# Altium schematic symbol library SamlibSCH.SchLib: 216 symbols (part 5 of 5)
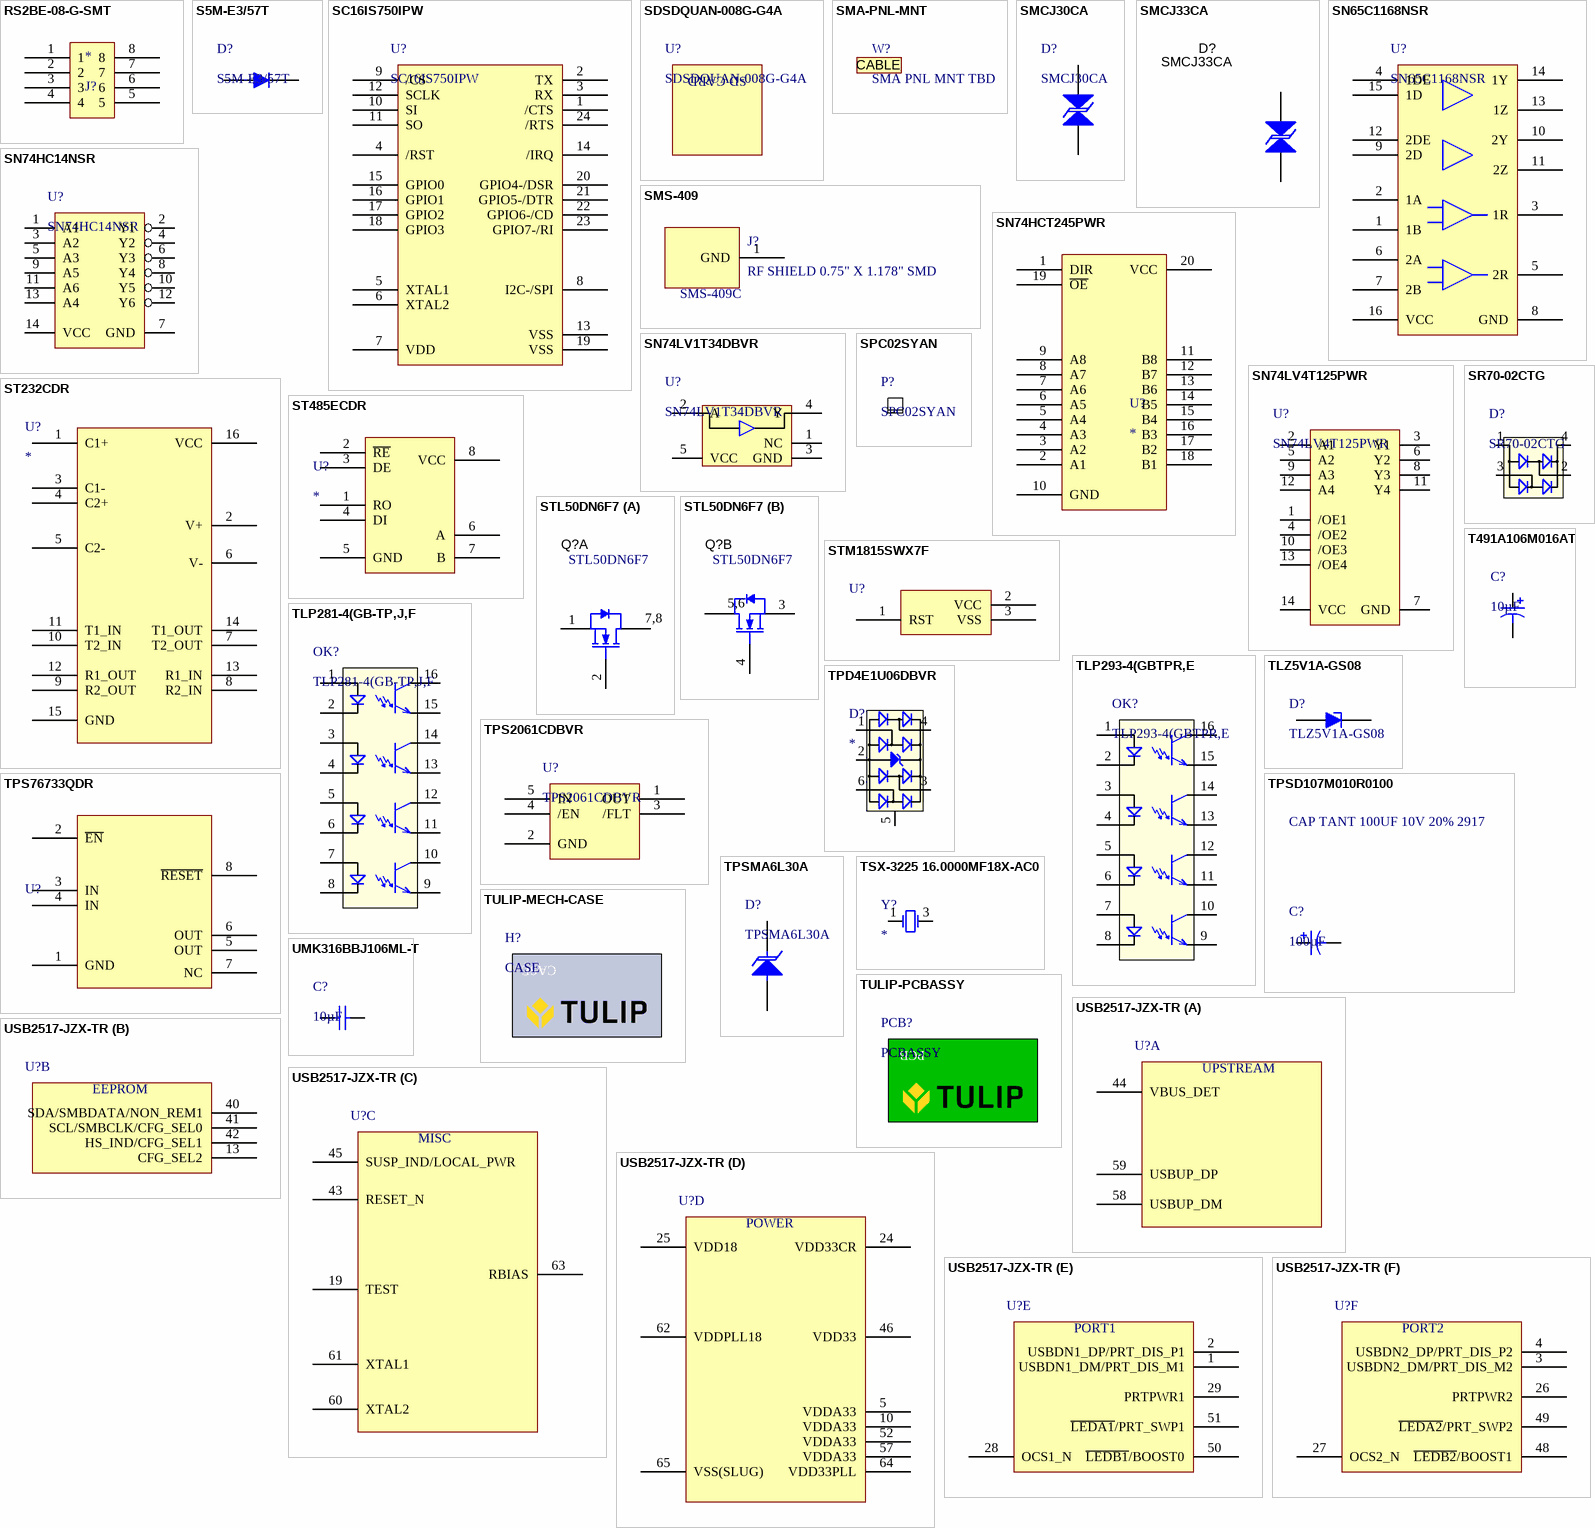
[diagram p11: symbols RS2BE-08-G-SMT to USB2517-JZX-TR]

## SN74HCT245PWR
designator U?
IC TXRX NON-INVERT 5.5V 20TSSOP; Manufacturer 1: Texas Instruments; Manufacturer Part Number 1: SN74HCT245PWR; Min Supply Voltage: 4.5V; Number of Elements: 1; Direction: Bidirectional; Operating Supply Voltage: 5V; Propagation Delay: 74ns; Number of Channels: 8; High Level Output Current: -6mA; Low Level Output Current: 6mA; Polarity: Non-Inverting; Logic Function: Transceiver,Inverting; Quiescent Current: 8uA; Supplier 1: Digi-Key; Stock 1: 38642; Pricing 1: 1=0.49000, 10=0.42100, 100=0.31440, 500=0.24700, 1000=0.19086 (USD); RoHS: Yes; Mount: Surface Mount; Case/Package: TSSOP; Number of Pins: 20; Weight: 0.002716oz; Contact Plating: Gold; Min Operating Temperature: -40°C; Max Operating Temperature: 85°C; Max Supply Voltage: 5.5V; Packaging: Tape and Reel; Package Quantity: 2000; Number of Bits per Element: 8; Number of Circuits: 8; Turn-On Delay Time: 74ns; Number of Outputs: 8; Number of Bits: 8; Radiation Hardening: No; Lead Free: Lead Free; REACH SVHC: No SVHC; ComponentLink1URL: https://datasheet.ciiva.com/27051/1008995-27051202.pdf?src-supplier=Jameco; ComponentLink1Description: https://datasheet.ciiva.com/27051/1008995-27051202.pdf?src-supplier=Jameco; ComponentLink2URL: https://datasheet.ciiva.com/15086/getdatasheetpartid-247086-15086443.pdf?src-supplier=Verical; ComponentLink2Description: https://datasheet.ciiva.com/15086/getdatasheetpartid-247086-15086443.pdf?src-supplier=Verical; ComponentLink3URL: https://datasheet.ciiva.com/26862/sn74hct245pwr-26862385.pdf?src-supplier=IIIC; ComponentLink3Description: https://datasheet.ciiva.com/26862/sn74hct245pwr-26862385.pdf?src-supplier=IIIC; ComponentLink4URL: https://datasheet.ciiva.com/41456/001016827-da-01-en-ic-bus-8bit-s-sn74hct245pwr-tssop-20-tid-41456682.pdf?src-supplier=Conrad; ComponentLink4Description: https://datasheet.ciiva.com/41456/001016827-da-01-en-ic-bus-8bit-s-sn74hct245pwr-tssop-20-tid-41456682.pdf?src-supplier=Conrad; ComponentLink5URL: https://datasheet.ciiva.com/25972/sn74hct245-25972421.pdf?src-supplier=Avnet+Europe; ComponentLink5Description: https://datasheet.ciiva.com/25972/sn74hct245-25972421.pdf?src-supplier=Avnet+Europe; ComponentLink6URL: https://datasheet.ciiva.com/28594/1835034-28594298.pdf?src-supplier=Element14; ComponentLink6Description: https://datasheet.ciiva.com/28594/1835034-28594298.pdf?src-supplier=Element14; ComponentLink7URL: https://datasheet.ciiva.com/1833/sn74hct245-1833931.pdf?src-supplier=Digi-Key; ComponentLink7Description: https://datasheet.ciiva.com/1833/sn74hct245-1833931.pdf?src-supplier=Digi-Key; ComponentLink8URL: https://datasheet.ciiva.com/1833/sn74hct245-1833932.pdf?src-supplier=Digi-Key; ComponentLink8Description: https://datasheet.ciiva.com/1833/sn74hct245-1833932.pdf?src-supplier=Digi-Key; ComponentLink9URL: https://datasheet.ciiva.com/1833/sn74hct245-1833933.pdf?src-supplier=Digi-Key; ComponentLink9Description: https://datasheet.ciiva.com/1833/sn74hct245-1833933.pdf?src-supplier=Digi-Key; ComponentLink10URL: https://datasheet.ciiva.com/46442/1835034-46442670.pdf?src-supplier=Element14; ComponentLink10Description: https://datasheet.ciiva.com/46442/1835034-46442670.pdf?src-supplier=Element14; Supplier Part Number 1: 296-8404-1-ND
footprint TSOP65P640X120-20N (TSOP, 20-Leads, Body 6.50x4.40mm, Pitch 0.65mm, IPC Medium Density)
pins: 1 DIR, 2 A1, 3 A2, 4 A3, 5 A4, 6 A5, 7 A6, 8 A7, 9 A8, 10 GND, 11 B8, 12 B7, 13 B6, 14 B5, 15 B4, 16 B3, 17 B2, 18 B1, 19 ~{OE}, 20 VCC

## SN74LV1T34DBVR
designator U?
IC BUFFER GATE SGL CMOS SOT23-5; Manufacturer: Texas Instruments; Logic Type: Buffer/Line Driver, Non-Inverting; Number of Elements: 1; Current - Output High, Low: 8mA, 8mA; Voltage - Supply: 1.6 V ~ 5.5 V; Packaging: Cut Tape (CT); Number of Bits per Element: 1; Operating Temperature: -40°C ~ 125°C; Mounting Type: Surface Mount; Package / Case: SC-74A, SOT-753; Supplier Device Package: SOT-23-5; ComponentLink1URL: http://www.ti.com/lit/ds/symlink/sn74lv1t34.pdf; ComponentLink1Description: http://www.ti.com/lit/ds/symlink/sn74lv1t34.pdf; Supplier 1: Digi-Key; Supplier Part Number 1: 296-37176-1-ND; Manufacturer Part Number: SN74LV1T34DBVR; RoHS: RoHS Compliant; Category: Integrated Circuits (ICs); Stock: 3038; Pricing: 1=0.46, 10=0.373, 100=0.2541, 500=0.1902, 1000=0.14245 (USD)
footprint SOT95P285X145-5N (SOT23, 5-Leads, Body 3.1x3.0mm (max), Pitch 0.95mm, IPC Medium Density)
pins: 1 NC, 2 A, 3 GND, 4 Y, 5 VCC

## SN74LV4T125PWR
designator U?
IC BUFF/DVR NON-INVERT 14TSSOP; Manufacturer: Texas Instruments; Logic Type: Buffer/Line Driver, Non-Inverting; Number of Elements: 4; Number of Bits per Element: 1; Current - Output High, Low: 16mA, 16mA; Voltage - Supply: 1.6 V ~ 5.5 V; Packaging: Cut Tape (CT); Operating Temperature: -40°C ~ 125°C; Mounting Type: Surface Mount; Package / Case: 14-TSSOP (0.173", 4.40mm Width); Supplier Device Package: 14-TSSOP; ComponentLink1URL: http://www.ti.com/lit/ds/symlink/sn74lv4t125.pdf; ComponentLink1Description: http://www.ti.com/lit/ds/symlink/sn74lv4t125.pdf; Supplier 1: Digi-Key; Supplier Part Number 1: 296-40545-1-ND; Manufacturer Part Number: SN74LV4T125PWR; RoHS: RoHS Compliant; Category: Integrated Circuits (ICs); Stock: 1712; Pricing: 1=0.95, 10=0.851, 100=0.6636, 500=0.5488, 1000=0.434 (USD)
footprint TSOP65P640X120-14L (TSOP, 14-Leads, Body 5.00x4.40mm, Pitch 0.65mm, IPC High Density)
pins: 1 /OE1, 2 A1, 3 Y1, 4 /OE2, 5 A2, 6 Y2, 7 GND (power), 8 Y3, 9 A3, 10 /OE3, 11 Y4, 12 A4, 13 /OE4, 14 VCC (power)

## SPC02SYAN
designator P?  (mechanical)
CONN JUMPER SHORTING GOLD FLASH; Manufacturer: Sullins Connector Solutions; Gender: Female Sockets; Number of Positions or Pins (Grid): 2 (1 x 2); Pitch: 0.100" (2.54mm); Packaging: Bulk; Part Status: Active; Type: Closed Top; Height: 0.256" (6.50mm); Contact Finish: Gold; Contact Finish Thickness: Flash; Color: Black; ComponentLink1URL: http://www.sullinscorp.com/drawings/134_C02SYAN_11134.pdf; ComponentLink1Description: http://www.sullinscorp.com/drawings/134_C02SYAN_11134.pdf; Supplier 1: Digi-Key; Supplier Part Number 1: S9001-ND; Manufacturer Part Number: SPC02SYAN; RoHS: RoHS Compliant; Category: Connectors, Interconnects; Stock 1: 243233; Pricing: 1=0.13, 10=0.077, 25=0.0548, 50=0.0448, 100=0.0385, 250=0.03256, 500=0.0301, 1000=0.0266, 2500=0.021 (USD)

## SR70-02CTG
designator D?
TVS DIODE 70VWM 12VC SOT143-4; Manufacturer: Littelfuse Inc.; Type: Steering (Rail to Rail); Bidirectional Channels: 2; Voltage - Reverse Standoff (Typ): 70V (Max); Voltage - Clamping (Max) @ Ipp: 12V (Typ); Current - Peak Pulse (10/1000µs): 30A (8/20µs); Power Line Protection: No; Capacitance @ Frequency: 2pF @ 1MHz; Packaging: Cut Tape (CT); Unidirectional Channels: -; Voltage - Breakdown (Min): -; Power - Peak Pulse: -; Applications: Ethernet; Operating Temperature: -40°C ~ 125°C (TJ); Mounting Type: Surface Mount; Package / Case: TO-253-4, TO-253AA; Supplier Device Package: SOT-143-4; ComponentLink1URL: http://www.littelfuse.com/~/media/electronics/datasheets/tvs_diode_arrays/littelfuse_tvs_diode_array_sr70_datasheet.pdf.pdf; ComponentLink1Description: http://www.littelfuse.com/~/media/electronics/datasheets/tvs_diode_arrays/littelfuse_tvs_diode_array_sr70_datasheet.pdf.pdf; Supplier 1: Digi-Key; Supplier Part Number 1: F5915CT-ND; Manufacturer Part Number: SR70-02CTG; RoHS: RoHS Compliant; Category: Circuit Protection; Stock: 0; Pricing: 1=1.01, 10=0.884, 25=0.7816, 100=0.6811, 250=0.59292, 500=0.5047, 1000=0.40425 (USD); Supplier 2: Mouser; Supplier Part Number 2: 576-SR70-02CTG
footprint SOT-143-4 (Littelfuse)
pins: 1 GND, 2 I/O2, 3 I/O1, 4 VDD

## ST232CDR
designator U?
IC DRVR/RCVR RS232 5V 16-SOIC; Manufacturer: STMicroelectronics; Manufacturer Part Number: ST232CDR; Data Rate: 220Kbps; Max Supply Voltage: 5.5V; Min Supply Voltage: 4.5V; Nominal Supply Current: 10mA; Number of Receivers: 2; Interface: RS-232; Logic Function: Receiver; Number of Transceivers: 1; Propagation Delay: 0.3us; Supplier 1: Digi-Key; Supplier Part Number 1: 497-6529-1-ND; Stock 1: 10770; Pricing 1: 1 = 0.70000, 10 = 0.61300, 100 = 0.47010, 500 = 0.37162, 1000 = 0.29730 (USD); RoHS: Yes; Mount: Surface Mount; Case/Package: SOP; Number of Pins: 16; Min Operating Temperature: 0°C; Max Operating Temperature: 70°C; Package Quantity: 1; Packaging: Tape and Reel; Number of Transmitters: 2; Operating Supply Voltage: 5V; Number of Drivers: 2; Termination: SMD/SMT; Length: 10mm; Height: 1.65mm; Width: 4mm; Radiation Hardening: No; REACH SVHC: No SVHC; Lead Free: Lead Free; ComponentLink1URL: https://datasheet.ciiva.com/3029/cd00001703-3029892.pdf?src-supplier=Avnet; ComponentLink1Description: https://datasheet.ciiva.com/3029/cd00001703-3029892.pdf?src-supplier=Avnet; ComponentLink2URL: https://datasheet.ciiva.com/1700/cd00001703-1700950.pdf?src-supplier=Digi-Key; ComponentLink2Description: https://datasheet.ciiva.com/1700/cd00001703-1700950.pdf?src-supplier=Digi-Key; ComponentLink3URL: https://datasheet.ciiva.com/1700/cd00001703-1700951.pdf?src-supplier=Digi-Key; ComponentLink3Description: https://datasheet.ciiva.com/1700/cd00001703-1700951.pdf?src-supplier=Digi-Key; ComponentLink4URL: https://datasheet.ciiva.com/1700/cd00001703-1700952.pdf?src-supplier=Digi-Key; ComponentLink4Description: https://datasheet.ciiva.com/1700/cd00001703-1700952.pdf?src-supplier=Digi-Key; ComponentLink5URL: https://datasheet.ciiva.com/7630/1761321-7630092.pdf?src-supplier=Element14; ComponentLink5Description: https://datasheet.ciiva.com/7630/1761321-7630092.pdf?src-supplier=Element14; ComponentLink6URL: https://datasheet.ciiva.com/7630/1761321-7630093.pdf?src-supplier=Element14; ComponentLink6Description: https://datasheet.ciiva.com/7630/1761321-7630093.pdf?src-supplier=Element14
footprint SOIC127P780X265-16N (SOIC, 16-Leads, Body 10.5x5.6mm (max), Pitch 1.27mm, IPC Medium Density)
pins: 1 C1+, 2 V+, 3 C1-, 4 C2+, 5 C2-, 6 V-, 7 T2_OUT, 8 R2_IN, 9 R2_OUT, 10 T2_IN, 11 T1_IN, 12 R1_OUT, 13 R1_IN, 14 T1_OUT, 15 GND, 16 VCC

## ST485ECDR
designator U?
IC TXRX 5V RS485/422 ESD 8-SOIC; Manufacturer: STMicroelectronics; Manufacturer Part Number: ST485ECDR; Number of Receivers: 1; Data Rate: 5Mbps; Min Supply Voltage: 4.75V; Max Supply Voltage: 5.25V; Nominal Supply Current: 900uA; Interface: RS-422; Logic Function: Transceiver; ESD Protection: Yes; Supplier 1: Digi-Key; Supplier Part Number 1: 497-3735-1-ND; Stock 1: 8127; Pricing 1: 1 = 1.07000, 10 = 0.95300, 100 = 0.74270, 500 = 0.61352, 1000 = 0.48437 (USD); RoHS: Yes; Mount: Surface Mount; Case/Package: SOIC; Number of Pins: 8; Contact Plating: Gold; Min Operating Temperature: 0°C; Max Operating Temperature: 70°C; Number of Transmitters: 1; Operating Supply Voltage: 5V; Packaging: Tape and Reel; Package Quantity: 2500; Number of Transceivers: 1; Number of Drivers: 1; Length: 5mm; Height: 1.25mm; Width: 4mm; Radiation Hardening: No; REACH SVHC: No SVHC; Lead Free: Lead Free; ComponentLink1URL: https://datasheet.ciiva.com/26913/getdatasheetpartid-77135-26913202.pdf?src-supplier=Verical; ComponentLink1Description: https://datasheet.ciiva.com/26913/getdatasheetpartid-77135-26913202.pdf?src-supplier=Verical; ComponentLink2URL: https://datasheet.ciiva.com/41459/001185218-da-01-en-ic-txrx-5v-rs485-42-st485ecdr-soic-8-stm-41459769.pdf?src-supplier=Conrad; ComponentLink2Description: https://datasheet.ciiva.com/41459/001185218-da-01-en-ic-txrx-5v-rs485-42-st485ecdr-soic-8-stm-41459769.pdf?src-supplier=Conrad; ComponentLink3URL: https://datasheet.ciiva.com/1701/cd00002703-1701127.pdf?src-supplier=Digi-Key; ComponentLink3Description: https://datasheet.ciiva.com/1701/cd00002703-1701127.pdf?src-supplier=Digi-Key; ComponentLink4URL: https://datasheet.ciiva.com/1701/cd00002703-1701128.pdf?src-supplier=Digi-Key; ComponentLink4Description: https://datasheet.ciiva.com/1701/cd00002703-1701128.pdf?src-supplier=Digi-Key; ComponentLink5URL: https://datasheet.ciiva.com/1701/cd00002703-1701129.pdf?src-supplier=Digi-Key; ComponentLink5Description: https://datasheet.ciiva.com/1701/cd00002703-1701129.pdf?src-supplier=Digi-Key; ComponentLink6URL: https://datasheet.ciiva.com/7630/1673567-7630122.pdf?src-supplier=Element14; ComponentLink6Description: https://datasheet.ciiva.com/7630/1673567-7630122.pdf?src-supplier=Element14
footprint SOIC127P600X175-8N (SOIC, 8-Leads, Body 4.9x3.9mm (max), Pitch 1.27mm, IPC Medium Density)
pins: 1 RO, 2 ~{RE}, 3 DE, 4 DI, 5 GND, 6 A, 7 B, 8 VCC

## STL50DN6F7
designator Q?
MOSFET N-CH 60V 57A POWERFLAT; Manufacturer: STMicroelectronics; Rds On Max: 11mR; Input Capacitance: 1.035nF; Max Power Dissipation: 62.5W; Supplier 1: Mouser; Supplier Part Number 1: 511-STL50DN6F7; Stock 1: 1447; Pricing 1: 1 = 0.84000, 10 = 0.69800, 50 = 0.69800, 100 = 0.45000, 1000 = 0.36000, 10000 = 0.29300 (USD); RoHS: Yes; Mount: Surface Mount; Number of Pins: 8; Min Operating Temperature: -55°C; Max Operating Temperature: 175°C; Packaging: Tape and Reel; Drain to Source Voltage (Vdss): 60V; Continuous Drain Current (ID): 57A; Lead Free: Lead Free; ComponentLink1URL: http://www.mouser.com/ds/2/389/stl50dn6f7-956286.pdf?src-supplier=Mouser; ComponentLink1Description: http://www.mouser.com/ds/2/389/stl50dn6f7-956286.pdf?src-supplier=Mouser; ComponentLink2URL: http://www.st.com/content/ccc/resource/technical/document/user_manual/04/4d/16/0d/d9/49/46/29/DM00064632.pdf/files/DM00064632.pdf/jcr:content/translations/en.DM00064632.pdf?src-supplier=Digi-Key; ComponentLink2Description: http://www.st.com/content/ccc/resource/technical/document/user_manual/04/4d/16/0d/d9/49/46/29/DM00064632.pdf/files/DM00064632.pdf/jcr:content/translations/en.DM00064632.pdf?src-supplier=Digi-Key; ComponentLink3URL: http://www.st.com/content/ccc/resource/technical/document/datasheet/5b/2d/23/78/4e/a3/4b/c9/DM00216100.pdf/files/DM00216100.pdf/jcr:content/translations/en.DM00216100.pdf?src-supplier=Digi-Key; ComponentLink3Description: http://www.st.com/content/ccc/resource/technical/document/datasheet/5b/2d/23/78/4e/a3/4b/c9/DM00216100.pdf/files/DM00216100.pdf/jcr:content/translations/en.DM00216100.pdf?src-supplier=Digi-Key; Manufacturer Part Number: STL50DN6F7
footprint 8-PowerVDFN (PowerFlat™ (5x6))
part A pins: 1 S, 2 G, 7 D, 8 D
part B pins: 3 S, 4 G, 5 D, 6 D
part A text: 7,8
part B text: 5,6

## STM1815SWX7F
designator U?  (value not drawn)
IC SUPERVISOR 1 CHANNEL SOT23-3; Manufacturer: STMicroelectronics; Manufacturer Part Number: STM1815SWX7F; Max Supply Voltage: 5.5V; Min Supply Voltage: 1.2V; Max Power Dissipation: 320mW; Max Supply Current: 16uA; Watchdog Timer: No; Min Reset Threshold Voltage: 2.8V; Max Reset Threshold Voltage: 2.97V; Number of Voltages Monitored: 1; Reset: Active Low; Reset Timeout: 100ms; Threshold Voltage: 2.88V; Supplier 1: Digi-Key; Stock 1: 4419; Pricing 1: 1=0.66000, 10=0.58500, 100=0.41630, 500=0.33660, 1000=0.25688 (USD); RoHS: Yes; Mount: Surface Mount; Case/Package: SOT-23-3; Number of Pins: 3; Min Operating Temperature: -40°C; Max Operating Temperature: 105°C; Packaging: Tape and Reel; Nominal Supply Current: 16uA; Package Quantity: 1; Type: Simple Reset/Power-On Reset; Overvoltage Threshold: 2.97V; Undervoltage Threshold: 2.8V; Operating Supply Current: 16uA; Number of Elements: 1; Power Dissipation: 320mW; Height: 1.02mm; Width: 1.4mm; Radiation Hardening: No; Lead Free: Lead Free; ComponentLink1URL: https://datasheet.ciiva.com/16291/cd00059921-16291210.pdf?src-supplier=Future+Electronics; ComponentLink1Description: https://datasheet.ciiva.com/16291/cd00059921-16291210.pdf?src-supplier=Future+Electronics; ComponentLink2URL: https://datasheet.ciiva.com/1974/cd00059921-1974451.pdf?src-supplier=Digi-Key; ComponentLink2Description: https://datasheet.ciiva.com/1974/cd00059921-1974451.pdf?src-supplier=Digi-Key; ComponentLink3URL: https://datasheet.ciiva.com/1974/cd00059921-1974452.pdf?src-supplier=Digi-Key; ComponentLink3Description: https://datasheet.ciiva.com/1974/cd00059921-1974452.pdf?src-supplier=Digi-Key; ComponentLink4URL: https://datasheet.ciiva.com/1974/cd00059921-1974453.pdf?src-supplier=Digi-Key; ComponentLink4Description: https://datasheet.ciiva.com/1974/cd00059921-1974453.pdf?src-supplier=Digi-Key; ComponentLink5URL: https://datasheet.ciiva.com/1974/cd00059921-1974454.pdf?src-supplier=Digi-Key; ComponentLink5Description: https://datasheet.ciiva.com/1974/cd00059921-1974454.pdf?src-supplier=Digi-Key; ComponentLink6URL: https://datasheet.ciiva.com/8139/cd00059921-8139127.pdf?src-supplier=Avnet; ComponentLink6Description: https://datasheet.ciiva.com/8139/cd00059921-8139127.pdf?src-supplier=Avnet; ComponentLink7URL: https://datasheet.ciiva.com/17226/cd00059921-17226695.pdf?src-supplier=Avnet+Europe; ComponentLink7Description: https://datasheet.ciiva.com/17226/cd00059921-17226695.pdf?src-supplier=Avnet+Europe; Length: 3.04mm; Supplier Part Number 1: 497-4968-1-ND
footprint SOT23-3N (SOT23, 3-Leads, Body 2.9x1.3mm, Pitch 0.95mm, Lead Span 2.5mm, IPC Medium Density)
pins: 1 RST, 2 VCC, 3 VSS

## T491A106M016AT
designator C?, comment 10µF
CAP TANT 10UF 16V 20% 1206; Manufacturer Size Code: A; Manufacturer: Kemet; Manufacturer Part Number: T491A106M016AT; ESR (Equivalent Series Resistance): 7 Ohm; Type: Molded; Lifetime @ Temp.: 2000 Hrs @ 85°C; Packaging: Cut Tape (CT); Capacitance: 10µF; Tolerance: ±20%; Voltage - Rated: 16V; Operating Temperature: -55°C ~ 125°C; Mounting Type: Surface Mount; Package / Case: 1206 (3216 Metric); Size / Dimension: 0.126" L x 0.063" W (3.20mm x 1.60mm); Height - Seated (Max): 0.071" (1.80mm); Lead Spacing: -; Features: General Purpose; ComponentLink1URL: http://www.kemet.com/Lists/ProductCatalog/Attachments/254/KEM_T2005_T491.pdf; ComponentLink1Description: http://www.kemet.com/Lists/ProductCatalog/Attachments/254/KEM_T2005_T491.pdf; Supplier 1: Digi-Key; Supplier Part Number 1: 399-3687-1-ND; RoHS: RoHS Compliant; Category: Capacitors; Stock: 136950; Pricing: 1=0.41, 10=0.362, 50=0.2198, 100=0.181, 250=0.14476, 500=0.13184, 1000=0.11891 (USD)
footprint 1206 TANT CASE A (TANTALUM CASE A)
pins: 1, 2

## TLP281-4(GB-TP,J,F
designator OK?
OPTOISO 2.5KV 4CH TRANS 16-SOP; Manufacturer: Toshiba Semiconductor and Storage; Number of Channels: 4; Voltage - Isolation: 2500Vrms; Current Transfer Ratio (Min): 100% @ 5mA; Current Transfer Ratio (Max): 600% @ 5mA; Turn On / Turn Off Time (Typ): 3µs, 3µs; Rise / Fall Time (Typ): 2µs, 3µs; Input Type: DC; Output Type: Transistor; Voltage - Output (Max): 80V; Current - Output / Channel: 50mA; Voltage - Forward (Vf) (Typ): 1.15V; Vce Saturation (Max): 400mV; Packaging: Digi-Reel®; Current - DC Forward (If) (Max): 50mA; Operating Temperature: -55°C ~ 100°C; Mounting Type: Surface Mount; Package / Case: 16-SOIC (0.173", 4.40mm Width); Supplier Device Package: 16-SOP; ComponentLink1URL: http://media.digikey.com/pdf/Data%20Sheets/Toshiba%20PDFs/TLP281.pdf; ComponentLink1Description: http://media.digikey.com/pdf/Data%20Sheets/Toshiba%20PDFs/TLP281.pdf; Supplier 1: Digi-Key; Supplier Part Number 1: TLP281-4(GB-TPJFDKR-ND; Manufacturer Part Number: TLP281-4(GB-TP,J,F; RoHS: RoHS Compliant; Category: Isolators; Stock: 56111; Pricing: 1=2.21, 10=1.764, 25=1.3476, 100=1.225, 250=1.078, 500=0.9065, 1000=0.784 (USD)
footprint SOIC127P700X220-16L (SOIC, 16-Leads, Body 10.35x4.60mm, Pitch 1.27mm, IPC High Density)
pins: 1, 2, 3, 4, 5, 6, 7, 8, 9, 10, 11, 12, 13, 14, 15, 16

## TLP293-4(GBTPR,E
designator OK?
OPTOISO 3.75KV TRANS SO16; Manufacturer: Toshiba Semiconductor and Storage; Number of Channels: 4; Voltage - Isolation: 3750Vrms; Current Transfer Ratio (Min): 100% @ 5mA; Current Transfer Ratio (Max): 600% @ 5mA; Turn On / Turn Off Time (Typ): 3µs, 3µs; Rise / Fall Time (Typ): 2µs, 3µs; Input Type: DC; Output Type: Transistor; Voltage - Output (Max): 80V; Current - Output / Channel: 50mA; Voltage - Forward (Vf) (Typ): 1.25V; Vce Saturation (Max): 300mV; Packaging: Cut Tape (CT); Current - DC Forward (If) (Max): 50mA; Operating Temperature: -55°C ~ 125°C; Mounting Type: Surface Mount; Package / Case: 16-SOIC (0.179", 4.55mm Width); Supplier Device Package: 16-SO; ComponentLink1URL: http://www.semicon.toshiba.co.jp/info/docget.jsp?type=datasheet&lang=en&pid=TLP293-4; ComponentLink1Description: http://www.semicon.toshiba.co.jp/info/docget.jsp?type=datasheet&lang=en&pid=TLP293-4; Supplier 1: Digi-Key; Supplier Part Number 1: TLP293-4(GBTPRECT-ND; Manufacturer Part Number: TLP293-4(GBTPR,E; RoHS: RoHS Compliant; Category: Isolators; Stock: 1113; Pricing: 1=1.17, 10=0.936, 25=0.7152, 100=0.65, 250=0.572, 500=0.481, 1000=0.416 (USD)
footprint SOIC127P700X220-16L (SOIC, 16-Leads, Body 10.35x4.60mm, Pitch 1.27mm, IPC High Density)
pins: 1, 2, 3, 4, 5, 6, 7, 8, 9, 10, 11, 12, 13, 14, 15, 16

## TLZ5V1A-GS08
designator D?
DIODE ZENER 5.1V 500MW SOD80; Manufacturer: Vishay Semiconductor Diodes Division; Tolerance: ±2%; Impedance (Max) (Zzt): 20 Ohm; Current - Reverse Leakage @ Vr: 2µA @ 2V; Voltage - Forward (Vf) (Max) @ If: 1.5V @ 200mA; Regulator Topology: Positive Fixed; Voltage - Output: 6V; Current - Output: 100mA; Voltage - Dropout (Typical): 1.7V @ 40mA; Number of Regulators: 1; Voltage - Input: Up to 30V; Packaging: Cut Tape (CT); Voltage - Zener (Nom) (Vz): 5.1V; Power - Max: 500mW; Operating Temperature: 175°C; Mounting Type: Surface Mount; Package / Case: DO-213AC, MINI-MELF, SOD-80; Supplier Device Package: SOD-80 MiniMELF; ComponentLink1URL: http://www.vishay.com/docs/85635/tlz.pdf; ComponentLink1Description: http://www.vishay.com/docs/85635/tlz.pdf; Supplier 1: Digi-Key; Supplier Part Number 1: TLZ5V1A-GS08GICT-ND; Manufacturer Part Number: TLZ5V1A-GS08; RoHS: RoHS Compliant; Category: Discrete Semiconductor Products; Stock 1: 10461; Pricing: 1=0.21, 10=0.172, 25=0.1436, 100=0.091, 250=0.07028, 500=0.05988, 1000=0.04072 (USD); Current - Limit (Min): -; ComponentLink2URL: http://www.st.com/content/ccc/resource/technical/document/datasheet/15/55/e5/aa/23/5b/43/fd/CD00000446.pdf/files/CD00000446.pdf/jcr:content/translations/en.CD00000446.pdf; ComponentLink2Description: http://www.st.com/content/ccc/resource/technical/document/datasheet/15/55/e5/aa/23/5b/43/fd/CD00000446.pdf/files/CD00000446.pdf/jcr:content/translations/en.CD00000446.pdf; Supplier 2: Digi-Key; Supplier Part Number 2: 497-1185-1-ND; Stock 2: 8308
footprint DIOMELF3515N (MELF Diode, 2-Leads, Body 3.50x1.50mm, IPC Medium Density)
pins: 1, 2

## TPD4E1U06DBVR
designator D?
TVS DIODE 5.5V 15V SOT23-6; Manufacturer: Texas Instruments; Manufacturer Part Number: TPD4E1U06DBVR; Capacitance: 1pF; Direction: Unidirectional; Polarity: Bidirectional; Number of Bidirectional Channels: 4; Min Breakdown Voltage: 6.5V; Peak Pulse Power: 45W; Power Line Protection: Yes; Leakage Current: 10nA; Test Current: 1mA; Peak Pulse Current: 3A; Interface: LVDS; Supplier 1: Digi-Key; Supplier Part Number 1: 296-35965-1-ND; Stock 1: 304172; Pricing 1: 1 = 0.41000, 10 = 0.32900, 100 = 0.22410, 500 = 0.16810, 1000 = 0.12607 (USD); RoHS: Yes; Mount: Surface Mount; Case/Package: SOT-23; Number of Pins: 6; Min Operating Temperature: -40°C; Max Operating Temperature: 125°C; Packaging: Tape and Reel; Package Quantity: 3000; Reverse Standoff Voltage: 5.5V; Clamping Voltage: 15V; Number of Channels: 4; Breakdown Voltage: 6.5V; Termination: SMD/SMT; Operating Supply Voltage: 5.5V; Working Voltage: 5.5V; ESD Protection: Yes; Max Reverse Leakage Current: 10nA; Max Power Dissipation: 45W; Length: 3.05mm; Height: 1.3mm; Depth: 1.75mm; Width: 1.75mm; Radiation Hardening: No; REACH SVHC: No SVHC; Lead Free: Lead Free; ComponentLink1URL: https://datasheet.ciiva.com/15186/getdatasheetpartid-716791-15186770.pdf?src-supplier=Verical; ComponentLink1Description: https://datasheet.ciiva.com/15186/getdatasheetpartid-716791-15186770.pdf?src-supplier=Verical; ComponentLink2URL: https://datasheet.ciiva.com/15063/tpd4e1u06-15063783.pdf?src-supplier=Digi-Key; ComponentLink2Description: https://datasheet.ciiva.com/15063/tpd4e1u06-15063783.pdf?src-supplier=Digi-Key; ComponentLink3URL: https://datasheet.ciiva.com/18551/tpd4e1u06-18551015.pdf?src-supplier=Digi-Key; ComponentLink3Description: https://datasheet.ciiva.com/18551/tpd4e1u06-18551015.pdf?src-supplier=Digi-Key; ComponentLink4URL: https://datasheet.ciiva.com/18551/tpd4e1u06-18551016.pdf?src-supplier=Digi-Key; ComponentLink4Description: https://datasheet.ciiva.com/18551/tpd4e1u06-18551016.pdf?src-supplier=Digi-Key; ComponentLink5URL: https://datasheet.ciiva.com/29883/tpd4e1u06-29883800.pdf?src-supplier=Avnet; ComponentLink5Description: https://datasheet.ciiva.com/29883/tpd4e1u06-29883800.pdf?src-supplier=Avnet; ComponentLink6URL: https://datasheet.ciiva.com/18551/tpd4e1u06-18551017.pdf?src-supplier=Digi-Key; ComponentLink6Description: https://datasheet.ciiva.com/18551/tpd4e1u06-18551017.pdf?src-supplier=Digi-Key
footprint SOT95P280X116-6L (SOT23, 6-Leads, Body 2.90x2.80mm, Pitch 0.95mm, IPC High Density)
pins: 1 I/O1, 2 GND, 3 I/O3, 4 I/O4, 5 NC, 6 I/O6

## TPS2061CDBVR
designator U?
IC PWR DIST SWITCH SGL SOT23-5; Manufacturer: Texas Instruments; Switch Type: USB Switch; Number of Outputs: 1; Ratio - Input:Output: 1:1; Output Configuration: High Side; Output Type: N-Channel; Interface: On/Off; Voltage - Load: 4.5 V ~ 5.5 V; Voltage - Supply (Vcc/Vdd): Not Required; Current - Output (Max): 1A; Rds On (Typ): 96 mOhm; Input Type: Non-Inverting; Fault Protection: Current Limiting (Fixed), Over Temperature, Reverse Current, UVLO; Packaging: Cut Tape (CT); Part Status: Active; Features: Load Discharge, Status Flag; Operating Temperature: -40°C ~ 125°C (TJ); Package / Case: SC-74A, SOT-753; Supplier Device Package: SOT-23-5; ComponentLink1URL: http://www.ti.com/lit/ds/symlink/tps2061c.pdf; ComponentLink1Description: http://www.ti.com/lit/ds/symlink/tps2061c.pdf; Supplier 1: Digi-Key; Supplier Part Number 1: 296-39352-1-ND; Manufacturer Part Number: TPS2061CDBVR; RoHS: RoHS Compliant; Category: Integrated Circuits (ICs); Stock 1: 1564; Pricing: 1=1.29, 10=1.149, 100=0.8959, 500=0.74088, 1000=0.5859 (USD)
footprint SOT23_5L (SOT23_5L, 5-Leads, Body 3.60x2.9mm, Pitch 0.95mm)
pins: 1 OUT, 2 GND (power), 3 /FLT, 4 /EN, 5 IN (power)

## TPS76733QDR
designator U?  (value not drawn)
IC REG LINEAR 3.3V 1A 8SOIC; Manufacturer: Texas Instruments; Manufacturer Part Number: TPS76733QDR; Number of Outputs: 1; Max Power Dissipation: 904mW; Dropout Voltage: 350mV; Max Input Voltage: 10V; Min Input Voltage: 2.7V; Input Bias Current: 85uA; Min Current Limit: 1.2A; Polarity: Positive; Quiescent Current: 80uA; Accuracy: 2%; Output Type: Fixed; Supplier 1: Digi-Key; Supplier Part Number 1: 296-46394-1-ND; Stock 1: 2112; Pricing 1: 1 = 3.17000, 10 = 2.84600, 100 = 2.33190, 500 = 1.98508, 1000 = 1.67416 (USD); Case/Package: D; Number of Pins: 8; Min Operating Temperature: -40°C; Max Operating Temperature: 125°C; Package Quantity: 2500; Output Current: 1A; Output Voltage: 3.3V; Packaging: Tape and Reel; Max Output Current: 1A; Number of Regulators: 1; Max Output Voltage: 3.3V; Min Output Voltage: 3.3V; Power Dissipation: 904mW; Output Voltage Accuracy: 2%; Lead Free: Lead Free; ComponentLink1URL: https://datasheet.ciiva.com/26909/tps76733qdr-26909024.pdf?src-supplier=IIIC; ComponentLink1Description: https://datasheet.ciiva.com/26909/tps76733qdr-26909024.pdf?src-supplier=IIIC; ComponentLink2URL: https://datasheet.ciiva.com/2064/tps76701-2064275.pdf?src-supplier=Digi-Key; ComponentLink2Description: https://datasheet.ciiva.com/2064/tps76701-2064275.pdf?src-supplier=Digi-Key; ComponentLink3URL: https://datasheet.ciiva.com/14275/tps76701-14275656.pdf?src-supplier=Avnet; ComponentLink3Description: https://datasheet.ciiva.com/14275/tps76701-14275656.pdf?src-supplier=Avnet; ComponentLink4URL: https://octopart.com/click/track?ak=2673a2b2&ct=datasheets&sig=0301a5f&at=physicalpart&sid=370&ppid=2359309&hlid=24946877&src-supplier=TI+store; ComponentLink4Description: https://octopart.com/click/track?ak=2673a2b2&ct=datasheets&sig=0301a5f&at=physicalpart&sid=370&ppid=2359309&hlid=24946877&src-supplier=TI+store; ComponentLink5URL: http://datasheet.octopart.com/TPS76733QDR-Texas-Instruments-datasheet-149170.pdf?src-supplier=TI+store; ComponentLink5Description: http://datasheet.octopart.com/TPS76733QDR-Texas-Instruments-datasheet-149170.pdf?src-supplier=TI+store; ComponentLink6URL: http://datasheet.octopart.com/TPS76733QDR-Texas-Instruments-datasheet-10255044.pdf?src-supplier=TI+store; ComponentLink6Description: http://datasheet.octopart.com/TPS76733QDR-Texas-Instruments-datasheet-10255044.pdf?src-supplier=TI+store; ComponentLink7URL: http://datasheet.octopart.com/TPS76733QDR-Texas-Instruments-datasheet-10254400.pdf?src-supplier=TI+store; ComponentLink7Description: http://datasheet.octopart.com/TPS76733QDR-Texas-Instruments-datasheet-10254400.pdf?src-supplier=TI+store; ComponentLink8URL: http://datasheet.octopart.com/TPS76733QDR-Texas-Instruments-datasheet-27616500.pdf?src-supplier=TI+store; ComponentLink8Description: http://datasheet.octopart.com/TPS76733QDR-Texas-Instruments-datasheet-27616500.pdf?src-supplier=TI+store; ComponentLink9URL: http://sigma.octopart.com/49249642/technical_drawing/Texas-Instruments-TPS76733QDR.pdf?src-supplier=TI+store; ComponentLink9Description: http://sigma.octopart.com/49249642/technical_drawing/Texas-Instruments-TPS76733QDR.pdf?src-supplier=TI+store; ComponentLink10URL: http://datasheet.octopart.com/TPS76733QDR-Texas-Instruments-datasheet-62086771.pdf?src-supplier=TI+store; ComponentLink10Description: http://datasheet.octopart.com/TPS76733QDR-Texas-Instruments-datasheet-62086771.pdf?src-supplier=TI+store; ComponentLink11URL: http://datasheet.octopart.com/TPS76733QDR-Texas-Instruments-datasheet-112084.pdf?src-supplier=Sierra+IC; ComponentLink11Description: http://datasheet.octopart.com/TPS76733QDR-Texas-Instruments-datasheet-112084.pdf?src-supplier=Sierra+IC; ComponentLink12URL: http://datasheet.octopart.com/TPS76733QDR-Texas-Instruments-datasheet-11547748.pdf?src-supplier=Arrow; ComponentLink12Description: http://datasheet.octopart.com/TPS76733QDR-Texas-Instruments-datasheet-11547748.pdf?src-supplier=Arrow; ComponentLink13URL: http://datasheet.octopart.com/TPS76733QDR-Texas-Instruments-datasheet-14169550.pdf?src-supplier=IIIC; ComponentLink13Description: http://datasheet.octopart.com/TPS76733QDR-Texas-Instruments-datasheet-14169550.pdf?src-supplier=IIIC
footprint SOIC127P600X175-8N (SOIC, 8-Leads, Body 4.9x3.9mm (max), Pitch 1.27mm, IPC Medium Density)
pins: 1 GND, 2 ~{EN}, 3 IN, 4 IN, 5 OUT, 6 OUT, 7 NC, 8 ~{RESET}

## TPSD107M010R0100
designator C?, comment 100µF
CAP TANT 100UF 10V 20% 2917; Manufacturer Size Code: D; Manufacturer 1: AVX Corporation; Manufacturer Part Number 1: TPSD107M010R0100; ESR (Equivalent Series Resistance): 100 mOhm; Type: Molded; Category 1: Capacitors; Packaging: Digi-Reel®; Capacitance: 100µF; Tolerance: ±20%; Voltage - Rated: 10V; Operating Temperature: -55°C ~ 125°C; Mounting Type: Surface Mount; Package / Case: 2917 (7343 Metric); Size / Dimension: 0.287" L x 0.169" W (7.30mm x 4.30mm); Height - Seated (Max): 0.122" (3.10mm); Lead Spacing: -; Features: General Purpose; Lifetime @ Temp.: -; ComponentLink1URL: http://datasheets.avx.com/tps.pdf; ComponentLink1Description: http://datasheets.avx.com/tps.pdf; Supplier 1: Digi-Key; Supplier Part Number 1: 478-1779-6-ND; RoHS 1: RoHS Compliant; Stock 1: 3589; Pricing 1: 1=2.35, 10=1.927, 100=1.363, 250=1.128 (USD); Description 1: CAP TANT 100UF 10V 20% 2917
footprint 2917 (Chip Capacitor, 2-Leads, Body 7.3x4.3mm, IPC Medium Density)
pins: 1, 2

## TPSMA6L30A
designator D?
TVS DIODE 30VWM 48.4VC SMA; Manufacturer: Littelfuse Inc.; Type: Zener; Unidirectional Channels: 1; Voltage - Reverse Standoff (Typ): 30V; Voltage - Breakdown (Min): 33.3V; Voltage - Clamping (Max) @ Ipp: 48.4V; Current - Peak Pulse (10/1000µs): 12.4A; Power - Peak Pulse: 600W; Power Line Protection: No; Supplier 1: Digi-Key; Manufacturer Part Number: TPSMA6L30A; RoHS: RoHS Compliant; Category: Circuit Protection; Stock 1: 843; Pricing 1: 1=0.49, 10=0.412, 25=0.3612, 100=0.309, 250=0.268, 500=0.227, 1000=0.175 (USD); Packaging: Cut Tape (CT); Bidirectional Channels: -; Applications: Automotive; Capacitance @ Frequency: -; Operating Temperature: -50°C ~ 150°C (TJ); Mounting Type: Surface Mount; Package / Case: DO-221AC, SMA Flat Leads; Supplier Device Package: DO-221AC; ComponentLink1URL: http://www.littelfuse.com/~/media/electronics/datasheets/tvs_diodes/littelfuse_tvs_diode_tpsma6l_datasheet.pdf.pdf; ComponentLink1Description: http://www.littelfuse.com/~/media/electronics/datasheets/tvs_diodes/littelfuse_tvs_diode_tpsma6l_datasheet.pdf.pdf; Supplier 2: Mouser; Supplier Part Number 1: F6161CT-ND; Supplier Part Number 2: 576-TPSMA6L30A
footprint SMA (DO221-AC) (2-Leads, Body 2.60x5.20mm, IPC High Density)
pins: 1 K, 2 A

## TSX-3225 16.0000MF18X-AC0
designator Y?
CRYSTAL 16.00 MHZ 9PF SMD; Manufacturer 1: Epson; Manufacturer Part Number 1: TSX-322516.0000MF18X-AC0; Frequency: 16MHz; ESR (Equivalent Series Resistance): 60R; Frequency Stability: 18ppm; Frequency Tolerance: 10ppm; Supplier 1: Digi-Key; Stock 1: 20444; Pricing 1: 1=0.36000, 10=0.30300, 50=0.27220, 100=0.24200, 500=0.22990 (USD); RoHS: Yes; Mount: Surface Mount; Case/Package: SMD/SMT; Min Operating Temperature: -20°C; Max Operating Temperature: 75°C; Packaging: Tape and Reel; Load Capacitance: 9pF; Length: 0.126inch; Height: 0.024inch; Width: 0.098inch; ComponentLink1URL: https://www.eea.epson.com/wp-content/uploads/2016/11/November-2016-PCS-MASTER-BOOK.pdf?src-supplier=Verical; ComponentLink1Description: https://www.eea.epson.com/wp-content/uploads/2016/11/November-2016-PCS-MASTER-BOOK.pdf?src-supplier=Verical; ComponentLink2URL: https://www5.epsondevice.com/en/information/support/pdf/june_2018_psc_masterbook.pdf?src-supplier=Digi-Key; ComponentLink2Description: https://www5.epsondevice.com/en/information/support/pdf/june_2018_psc_masterbook.pdf?src-supplier=Digi-Key; ComponentLink3URL: https://www.eea.epson.com/wp-content/uploads/2016/11/November-2016-PCS-MASTER-BOOK.pdf?src-supplier=Mouser; ComponentLink3Description: https://www.eea.epson.com/wp-content/uploads/2016/11/November-2016-PCS-MASTER-BOOK.pdf?src-supplier=Mouser; ComponentLink4URL: https://www.eea.epson.com/wp-content/uploads/2016/11/November-2016-PCS-MASTER-BOOK.pdf?src-supplier=Dove; ComponentLink4Description: https://www.eea.epson.com/wp-content/uploads/2016/11/November-2016-PCS-MASTER-BOOK.pdf?src-supplier=Dove; Supplier Part Number 1: SER4070CT-ND
pins: 1 OSC1, 3 OSC2

## TULIP-MECH-CASE
designator H?, comment CASE  (mechanical)
EXTRUDED ALUMINUM CASE; Manufacturer: *; Manufacturer Part Number: *

## TULIP-PCBASSY
designator PCB?, comment PCBASSY  (mechanical)
BARE PRINTED CIRCUIT BOARD; Manufacturer: *; Manufacturer Part Number: *
text: PCB

## UMK316BBJ106ML-T
designator C?, comment 10µF
CAP CER 10UF 50V X5R 1206; Manufacturer 1: Taiyo Yuden; Manufacturer Part Number 1: UMK316BBJ106ML-T; Tolerance: ±20%; Category 1: Capacitors; Packaging: Cut Tape (CT); Capacitance: 10µF; Voltage - Rated: 50V; Temperature Coefficient: X5R; Mounting Type: Surface Mount, MLCC; Operating Temperature: -55°C ~ 85°C; Applications: General Purpose; Ratings: -; Package / Case: 1206 (3216 Metric); Size / Dimension: 0.126" L x 0.063" W (3.20mm x 1.60mm); Height - Seated (Max): -; Thickness (Max): 0.075" (1.90mm); Lead Spacing: -; Features: -; Lead Style: -; ComponentLink1URL: http://ds.yuden.co.jp/TYCOMPAS/ut/detail.do?productNo=UMK316BBJ106ML-T&fileName=UMK316BBJ106ML-T_SS&mode=specSheetDownload; ComponentLink1Description: http://ds.yuden.co.jp/TYCOMPAS/ut/detail.do?productNo=UMK316BBJ106ML-T&fileName=UMK316BBJ106ML-T_SS&mode=specSheetDownload; Supplier 1: Digi-Key; Supplier Part Number 1: 587-3248-1-ND; RoHS 1: RoHS Compliant; Description 1: CAP CER 10UF 50V X5R 1206; Stock 1: 80846; Pricing 1: 1=0.64, 10=0.536, 50=0.384, 100=0.336, 250=0.264, 500=0.24, 1000=0.192 (USD)
footprint 1210M (3225) (1210 from SM-752 data)
pins: 1, 2

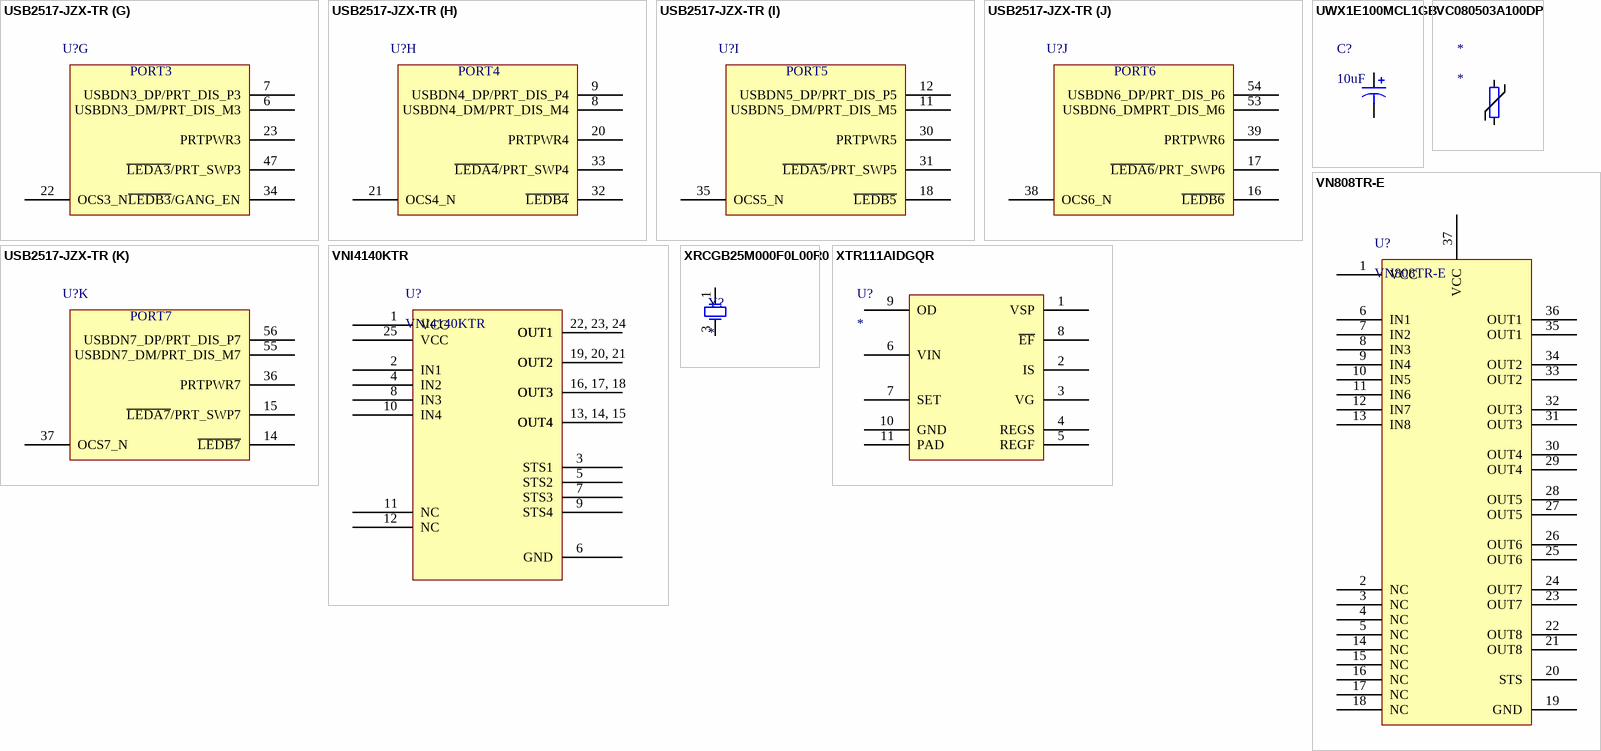
[diagram p7: symbols USB2517-JZX-TR to XTR111AIDGQR]

## USB2517-JZX-TR
designator U?  (value not drawn)
IC USB 2.0 7PORT HUB CTLR 64QFN; Manufacturer: Microchip Technology; Function: Hub Controller; Standards: USB 2.0; Voltage - Supply: 3 V ~ 3.6 V; Current - Supply: 130mA; Packaging: Cut Tape (CT); Protocol: USB; Interface: USB; Operating Temperature: 0°C ~ 70°C; Package / Case: 64-VFQFN Exposed Pad; Supplier Device Package: 64-QFN (9x9); ComponentLink1URL: http://www.microchip.com/mymicrochip/filehandler.aspx?ddocname=en562019; ComponentLink1Description: http://www.microchip.com/mymicrochip/filehandler.aspx?ddocname=en562019; Supplier 1: Digi-Key; Supplier Part Number 1: USB2517-JZX-CT-ND; Manufacturer Part Number: USB2517-JZX-TR; RoHS: RoHS Compliant; Category: Integrated Circuits (ICs); Stock: 2078; Pricing: 1=4.5, 25=3.75, 100=3.625 (USD); Stock 1: 6636; Pricing 1: 1 = 4.64000, 25 = 4.08840 (USD); Min Operating Temperature: 0°C; Max Operating Temperature: 70°C; Package Quantity: 3000; Operating Supply Current: 130mA; Lead Free: Lead Free; ComponentLink2URL: https://datasheet.ciiva.com/29644/2517-29644802.pdf?src-supplier=Digi-Key; ComponentLink2Description: https://datasheet.ciiva.com/29644/2517-29644802.pdf?src-supplier=Digi-Key
footprint QFN50P900X900X100-64N (QFN, 64-Leads, Body 9.1x9.1mm (max), Pitch 0.50mm, IPC Medium Density)
part A pins: 44 VBUS_DET, 58 USBUP_DM, 59 USBUP_DP
part B pins: 13 CFG_SEL2, 40 SDA/SMBDATA/NON_REM1, 41 SCL/SMBCLK/CFG_SEL0, 42 HS_IND/CFG_SEL1
part C pins: 19 TEST, 43 RESET_N, 45 SUSP_IND/LOCAL_PWR, 60 XTAL2, 61 XTAL1, 63 RBIAS
part D pins: 5 VDDA33, 10 VDDA33, 24 VDD33CR, 25 VDD18, 46 VDD33, 52 VDDA33, 57 VDDA33, 62 VDDPLL18, 64 VDD33PLL, 65 VSS(SLUG)
part E pins: 1 USBDN1_DM/PRT_DIS_M1, 2 USBDN1_DP/PRT_DIS_P1, 28 OCS1_N, 29 PRTPWR1, 50 ~{LEDB1}/BOOST0, 51 ~{LEDA1}/PRT_SWP1
part F pins: 3 USBDN2_DM/PRT_DIS_M2, 4 USBDN2_DP/PRT_DIS_P2, 26 PRTPWR2, 27 OCS2_N, 48 ~{LEDB2}/BOOST1, 49 ~{LEDA2}/PRT_SWP2
part G pins: 6 USBDN3_DM/PRT_DIS_M3, 7 USBDN3_DP/PRT_DIS_P3, 22 OCS3_N, 23 PRTPWR3, 34 ~{LEDB3}/GANG_EN, 47 ~{LEDA3}/PRT_SWP3
part H pins: 8 USBDN4_DM/PRT_DIS_M4, 9 USBDN4_DP/PRT_DIS_P4, 20 PRTPWR4, 21 OCS4_N, 32 ~{LEDB4}, 33 ~{LEDA4}/PRT_SWP4
part I pins: 11 USBDN5_DM/PRT_DIS_M5, 12 USBDN5_DP/PRT_DIS_P5, 18 ~{LEDB5}, 30 PRTPWR5, 31 ~{LEDA5}/PRT_SWP5, 35 OCS5_N
part J pins: 16 ~{LEDB6}, 17 ~{LEDA6}/PRT_SWP6, 38 OCS6_N, 39 PRTPWR6, 53 USBDN6_DMPRT_DIS_M6, 54 USBDN6_DP/PRT_DIS_P6
part K pins: 14 ~{LEDB7}, 15 ~{LEDA7}/PRT_SWP7, 36 PRTPWR7, 37 OCS7_N, 55 USBDN7_DM/PRT_DIS_M7, 56 USBDN7_DP/PRT_DIS_P7
part A text: UPSTREAM
part B text: EEPROM
part C text: MISC
part D text: POWER
part E text: PORT1
part F text: PORT2
part G text: PORT3
part H text: PORT4
part I text: PORT5
part J text: PORT6
part K text: PORT7

## UWX1E100MCL1GB
designator C?, comment 10uF
CAP ALUM 10UF 20% 25V SMD; Manufacturer: Nichicon; Manufacturer Part Number: UWX1E100MCL1GB; Capacitance: 10µF; Lifetime @ Temp.: 2000 Hrs @ 85°C; Polarization: Polar; Ripple Current: 27mA; Surface Mount Land Size: 0.209" L x 0.209" W (5.30mm x 5.30mm); Packaging: Cut Tape (CT); Part Status: Active; Tolerance: ±20%; Voltage Rating: 25V; ESR (Equivalent Series Resistance): -; Operating Temperature: -40°C ~ 85°C; Applications: General Purpose; Impedance: -; Lead Spacing: -; Size / Dimension: 0.197" Dia (5.00mm); Height - Seated (Max): 0.213" (5.40mm); Mounting Type: Surface Mount; Package / Case: Radial, Can - SMD; ComponentLink1URL: http://nichicon-us.com/english/products/pdfs/e-uwx.pdf; ComponentLink1Description: http://nichicon-us.com/english/products/pdfs/e-uwx.pdf; Supplier 1: Digi-Key; Supplier Part Number 1: 493-2108-1-ND; RoHS: RoHS Compliant; Category: Capacitors; Stock 1: 57141; Pricing: 1=0.29, 10=0.2, 25=0.1604, 50=0.1336, 100=0.1135, 250=0.09012, 500=0.08012 (USD)
footprint PANASONIC_CAP_SMD_C (PANASONIC SMD C 5.30x5.30x5.80mm, IPC High Density)
pins: 1, 2

## VC080503A100DP
designator *
VARISTOR 5V 40A 0805
footprint 0805_HV (0805 with 30mil clearance between pads)
pins: 1, 2

## VN808TR-E
designator U?
IC DRIVER OCTAL HISIDE 36PWRSOIC; Manufacturer: STMicroelectronics; Switch Type: General Purpose; Number of Outputs: 8; Ratio - Input:Output: 1:1; Output Configuration: High Side; Output Type: N-Channel; Interface: On/Off; Voltage - Load: 10.5 V ~ 45 V; Voltage - Supply (Vcc/Vdd): Not Required; Current - Output (Max): 700mA; Rds On (Typ): 150 mOhm; Input Type: Non-Inverting; Fault Protection: Current Limiting (Fixed), Over Temperature; Packaging: Cut Tape (CT); Features: Auto Restart, Status Flag; Operating Temperature: -40°C ~ 125°C (TJ); Package / Case: 36-BSSOP (0.433", 11.00mm Width) Exposed Pad; Supplier Device Package: PowerSO-36; ComponentLink1URL: http://www.st.com/web/en/resource/technical/document/datasheet/CD00059620.pdf; ComponentLink1Description: http://www.st.com/web/en/resource/technical/document/datasheet/CD00059620.pdf; Supplier 1: Digi-Key; Supplier Part Number 1: 497-4496-1-ND; Manufacturer Part Number: VN808TR-E; RoHS: RoHS Compliant; Category: Integrated Circuits (ICs); Stock: 2645; Pricing: 1=6.86, 10=6.216, 100=5.124 (USD)
footprint POWERSO-36 (SOP, 36-Leads, Body 15.90x11.00mm, Pitch 0.65mm, Thermal Pad 9.80x6.20mm, IPC Medium Density)
pins: 1 VCC (power), 2 NC, 3 NC, 4 NC, 5 NC, 6 IN1, 7 IN2, 8 IN3, 9 IN4, 10 IN5, 11 IN6, 12 IN7, 13 IN8, 14 NC, 15 NC, 16 NC, 17 NC, 18 NC, 19 GND, 20 STS, 21 OUT8, 22 OUT8, 23 OUT7, 24 OUT7, 25 OUT6, 26 OUT6, 27 OUT5, 28 OUT5, 29 OUT4, 30 OUT4, 31 OUT3, 32 OUT3, 33 OUT2, 34 OUT2, 35 OUT1, 36 OUT1, 37 VCC (power)

## VNI4140KTR
designator U?
IC SMART PWR QUAD HISD PWRSSO24; Manufacturer: STMicroelectronics; Number of Outputs: 4; Nominal Supply Current: 2.4mA; Output Current: 700mA; Current Rating: 1A; Interface: On/Off; On-State Resistance: 80MR; Fault Protection: Over Temperature; Output Configuration: High Side; ComponentLink1Description: https://www.st.com/resource/en/datasheet/vni4140k.pdf; ComponentLink1URL: https://www.st.com/resource/en/datasheet/vni4140k.pdf; Supplier 1: Digi-Key; Parameter 1: *; Parameter 2: *; Manufacturer Part Number: VNI4140KTR; Stock 1: 1080; Pricing 1: 1 = 4.98000, 10 = 4.47400, 100 = 3.66570, 500 = 3.12056 (USD); RoHS: Yes; Mount: Surface Mount; Number of Pins: 24; Min Operating Temperature: -40°C; Max Operating Temperature: 125°C; Packaging: Tape and Reel; Package Quantity: 1000; Termination: Gull Wing; Max Output Current: 700mA; Radiation Hardening: No; Lead Free: Lead Free; ComponentLink2URL: https://datasheet.ciiva.com/4468/cd00176874-116409-4468933.pdf?src-supplier=Mouser; ComponentLink2Description: https://datasheet.ciiva.com/4468/cd00176874-116409-4468933.pdf?src-supplier=Mouser; ComponentLink3URL: https://datasheet.ciiva.com/26880/vni4140ktr-26880530.pdf?src-supplier=IIIC; ComponentLink3Description: https://datasheet.ciiva.com/26880/vni4140ktr-26880530.pdf?src-supplier=IIIC; ComponentLink4URL: https://datasheet.ciiva.com/16510/cd00176874-16510837.pdf?src-supplier=Future+Electronics; ComponentLink4Description: https://datasheet.ciiva.com/16510/cd00176874-16510837.pdf?src-supplier=Future+Electronics; ComponentLink5URL: https://datasheet.ciiva.com/1955/cd00176874-1955293.pdf?src-supplier=Digi-Key; ComponentLink5Description: https://datasheet.ciiva.com/1955/cd00176874-1955293.pdf?src-supplier=Digi-Key; ComponentLink6URL: https://datasheet.ciiva.com/1955/cd00176874-1955294.pdf?src-supplier=Digi-Key; ComponentLink6Description: https://datasheet.ciiva.com/1955/cd00176874-1955294.pdf?src-supplier=Digi-Key; ComponentLink7URL: https://datasheet.ciiva.com/1955/cd00176874-1955295.pdf?src-supplier=Digi-Key; ComponentLink7Description: https://datasheet.ciiva.com/1955/cd00176874-1955295.pdf?src-supplier=Digi-Key; Supplier Part Number 1: 497-6952-1-ND
footprint PowerSSO-24
pins: 1 VCC (power), 2 IN1, 3 STS1, 4 IN2, 5 STS2, 6 GND, 7 STS3, 8 IN3, 9 STS4, 10 IN4, 11 NC, 12 NC, 13 OUT4, 14 OUT4, 15 OUT4, 16 OUT3, 17 OUT3, 18 OUT3, 19 OUT2, 20 OUT2, 21 OUT2, 22 OUT1, 23 OUT1, 24 OUT1, 25 VCC (power)
text: 22, 23, 24; 19, 20, 21; 16, 17, 18; 13, 14, 15

## XRCGB25M000F0L00R0
designator Y?
CRYSTAL 25.0000MHZ 6PF SMD; Manufacturer: Murata; Manufacturer Part Number: XRCGB25M000F0L00R0; Frequency: 25MHz; Frequency Tolerance: 100ppm; ESR (Equivalent Series Resistance): 150R; Frequency Stability: 50ppm; ComponentLink1URL: https://www.eea.epson.com/wp-content/uploads/2016/11/November-2016-PCS-MASTER-BOOK.pdf?src-supplier=Verical; ComponentLink1Description: https://www.eea.epson.com/wp-content/uploads/2016/11/November-2016-PCS-MASTER-BOOK.pdf?src-supplier=Verical; ComponentLink2URL: https://www5.epsondevice.com/en/information/support/pdf/june_2018_psc_masterbook.pdf?src-supplier=Digi-Key; ComponentLink2Description: https://www5.epsondevice.com/en/information/support/pdf/june_2018_psc_masterbook.pdf?src-supplier=Digi-Key; ComponentLink3URL: https://www.eea.epson.com/wp-content/uploads/2016/11/November-2016-PCS-MASTER-BOOK.pdf?src-supplier=Mouser; ComponentLink3Description: https://www.eea.epson.com/wp-content/uploads/2016/11/November-2016-PCS-MASTER-BOOK.pdf?src-supplier=Mouser; ComponentLink4URL: https://www.eea.epson.com/wp-content/uploads/2016/11/November-2016-PCS-MASTER-BOOK.pdf?src-supplier=Dove; ComponentLink4Description: https://www.eea.epson.com/wp-content/uploads/2016/11/November-2016-PCS-MASTER-BOOK.pdf?src-supplier=Dove; Stock 1: 14855; Pricing 1: 1=0.35000, 10=0.29500, 50=0.26580, 100=0.23630, 500=0.22446, 1000=0.18902 (USD); RoHS: Yes; Mount: Surface Mount; Case/Package: SMD/SMT; Number of Pins: 4; Min Operating Temperature: -30°C; Max Operating Temperature: 85°C; Load Capacitance: 6pF; Tolerance: 100ppm; Packaging: Tape and Reel; Package Quantity: 3000; Termination: SMD/SMT; Series Resistance: 150R; Length: 2mm; Height: 0.028inch; Width: 1.6mm; Depth: 1.6mm; REACH SVHC: No SVHC; Lead Free: Lead Free; ComponentLink5URL: https://datasheet.ciiva.com/3851/part17-3851526.pdf?src-supplier=Arrow; ComponentLink5Description: https://datasheet.ciiva.com/3851/part17-3851526.pdf?src-supplier=Arrow; ComponentLink6URL: https://datasheet.ciiva.com/1369/l0445e-1369844.pdf?src-supplier=Farnell; ComponentLink6Description: https://datasheet.ciiva.com/1369/l0445e-1369844.pdf?src-supplier=Farnell; ComponentLink7URL: https://datasheet.ciiva.com/852/p79e-852277.pdf?src-supplier=Digi-Key; ComponentLink7Description: https://datasheet.ciiva.com/852/p79e-852277.pdf?src-supplier=Digi-Key; ComponentLink8URL: https://datasheet.ciiva.com/852/p79e-852278.pdf?src-supplier=Digi-Key; ComponentLink8Description: https://datasheet.ciiva.com/852/p79e-852278.pdf?src-supplier=Digi-Key; ComponentLink9URL: https://datasheet.ciiva.com/22695/p79e-22695437.pdf?src-supplier=Element14; ComponentLink9Description: https://datasheet.ciiva.com/22695/p79e-22695437.pdf?src-supplier=Element14; ComponentLink10URL: https://datasheet.ciiva.com/1361/p79e-1361518.pdf?src-supplier=Element14; ComponentLink10Description: https://datasheet.ciiva.com/1361/p79e-1361518.pdf?src-supplier=Element14; ComponentLink11URL: https://datasheet.ciiva.com/852/p79e-852279.pdf?src-supplier=Digi-Key; ComponentLink11Description: https://datasheet.ciiva.com/852/p79e-852279.pdf?src-supplier=Digi-Key; Supplier Part Number: 490-5577-1-ND; Supplier: Digi-Key
footprint SMD 3.2MMx5MM (XTAL 3.2MMx5MM)
pins: 1 OSC1, 3 OSC2

## XTR111AIDGQR
designator U?
IC PREC VOLT-CURR CONV/TX 10MSOP; Manufacturer 1: Texas Instruments; Manufacturer Part Number: XTR111AIDGQR; Output Current: 25mA; Nominal Supply Current: 450uA; Max Supply Voltage: 40V; Min Supply Voltage: 8V; Operating Supply Current: 550uA; Input Bias Current: 25nA; Input Offset Voltage (Vos): 1.5mV; Number of Channels: 1; Accuracy: 0.015%; Number of Amplifiers: 2; Output Type: Voltage; Supplier 1: Digi-Key; Stock 1: 11040; Pricing 1: 1=1.69000, 10=1.51600, 25=1.43000, 100=1.14400, 250=1.00100, 500=0.97240, 1000=0.77220 (USD); RoHS: Yes; Mount: Surface Mount; Case/Package: HTSSOP EP; Number of Pins: 10; Contact Plating: Gold; Min Operating Temperature: -40°C; Max Operating Temperature: 125°C; Packaging: Tape and Reel; Package Quantity: 2500; Output Current per Channel: 25mA; Radiation Hardening: No; REACH SVHC: No SVHC; Lead Free: Lead Free; ComponentLink1URL: https://datasheet.ciiva.com/15135/getdatasheetpartid-456570-15135022.pdf?src-supplier=Verical; ComponentLink1Description: https://datasheet.ciiva.com/15135/getdatasheetpartid-456570-15135022.pdf?src-supplier=Verical; ComponentLink2URL: https://datasheet.ciiva.com/26838/xtr111aidgqr-26838802.pdf?src-supplier=IIIC; ComponentLink2Description: https://datasheet.ciiva.com/26838/xtr111aidgqr-26838802.pdf?src-supplier=IIIC; ComponentLink3URL: https://datasheet.ciiva.com/1782/xtr111-1782019.pdf?src-supplier=Digi-Key; ComponentLink3Description: https://datasheet.ciiva.com/1782/xtr111-1782019.pdf?src-supplier=Digi-Key; Supplier Part Number 1: 296-39545-1-ND
pins: 1 VSP, 2 IS, 3 VG, 4 REGS, 5 REGF, 6 VIN, 7 SET, 8 ~{EF}, 9 OD, 10 GND, 11 PAD